# Altium footprint library THS4509RGTT.PcbLib: 1 footprints
Each footprint in its own frame and in the unit in brackets; x right, y up, seen from the top. Pads: shape width x height; smd on the part's side, far side on the other; paste and mask are expansions set on the pad; w line width, h text height; cw(c..) or ccw(c..) is an arc to the next point about the centre after c.
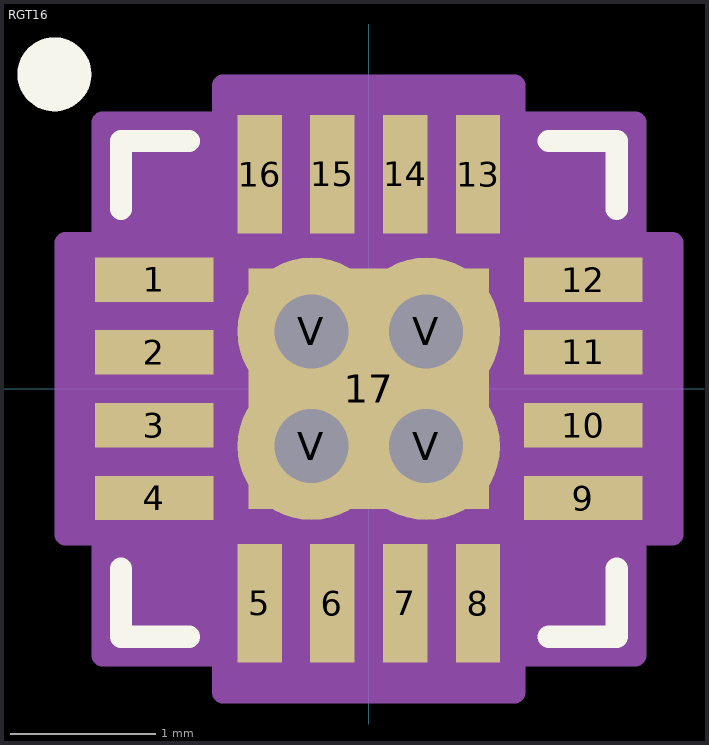
[diagram p0: the footprint, top view; thin cyan lines are the x and y axes]

## RGT16 [mil]
pads (21):
  rect 32x12 smd paste+0 mask+0: 1(-58,29.53) 2(-58,9.84) 3(-58,-9.84) 4(-58,-29.53) 9(58,-29.53) 10(58,-9.84) 11(58,9.84) 12(58,29.53)
  rect 12x32 smd paste+0 mask+0: 5(-29.53,-58) 6(-9.84,-58) 7(9.84,-58) 8(29.53,-58) 13(29.53,58) 14(9.84,58) 15(-9.84,58) 16(-29.53,58)
  rect 65x65 smd paste-32 mask-32: 17(0,0)
  round 40 hole 20: V(-15.5,-15.5) V(-15.5,15.5) V(15.5,-15.5) V(15.5,15.5)
Top Overlay:
  circle w10: c-85,85 r5
  lines w6: -67,-48.63 -67,-67 -48.63,-67 ; -67,48.63 -67,67 -48.63,67 ; 48.63,-67 67,-67 67,-48.63 ; 48.63,67 67,67 67,48.63
Top Paste:
  region: 29.55,-19.44 25,-19.44 19.44,-25 19.44,-29.55 29.55,-29.55
  region: 29.55,11.56 25,11.56 19.44,6 19.44,-6 25,-11.56 29.55,-11.56
  region: 29.55,29.55 19.44,29.55 19.44,25 25,19.44 29.55,19.44
  region: 6,-19.44 -6,-19.44 -11.56,-25 -11.56,-29.55 11.56,-29.55 11.56,-25
  region: 6,11.56 -6,11.56 -11.56,6 -11.56,-6 -6,-11.56 6,-11.56 11.56,-6 11.56,6
  region: 11.56,29.55 -11.56,29.55 -11.56,25 -6,19.44 6,19.44 11.56,25
  region: -25,-19.44 -29.55,-19.44 -29.55,-29.55 -19.44,-29.55 -19.44,-25
  region: -25,11.56 -29.55,11.56 -29.55,-11.56 -25,-11.56 -19.44,-6 -19.44,6
  region: -19.44,29.55 -29.55,29.55 -29.55,19.44 -25,19.44 -19.44,25
Top Solder:
  region: 23.37,-35 23.37,35 35,35 35,-35
  region: 7.63,-35 7.63,35 -7.63,35 -7.63,-35
  region: -35,-35 -35,35 -23.37,35 -23.37,-35
  region: -35,-35 -35,-23.37 35,-23.37 35,-35
  region: -35,-7.63 -35,7.63 35,7.63 35,-7.63
  region: -35,23.37 -35,35 35,35 35,23.37
Mechanical 13:
  lines w1: -62,12 -12,62 ; -62,-62 -62,62 62,62 62,-62 -62,-62 ; -62,-35.53 -62,-23.53 -62,-35.53 ; -62,-15.84 -62,-3.84 -62,-15.84 ; -62,3.84 -62,15.84 -62,3.84 ; -62,23.53 -62,35.53 -62,23.53 ; -35.53,-62 -23.53,-62 -35.53,-62 ; -35.53,62 -23.53,62 -35.53,62 ; -15.84,-62 -3.84,-62 -15.84,-62 ; -15.84,62 -3.84,62 -15.84,62 ; 3.84,-62 15.84,-62 3.84,-62 ; 3.84,62 15.84,62 3.84,62 ; 23.53,-62 35.53,-62 23.53,-62 ; 23.53,62 35.53,62 23.53,62 ; 62,-35.53 62,-23.53 62,-35.53 ; 62,-15.84 62,-3.84 62,-15.84 ; 62,3.84 62,15.84 62,3.84 ; 62,23.53 62,35.53 62,23.53
  text "*" at -54.5,14.37 h50
Mechanical 15:
  region: -39.37,-72 -72,-72 -72,-39.37 -82,-39.37 -82,39.37 -72,39.37 -72,72 -39.37,72 -39.37,82 39.37,82 39.37,72 72,72 72,39.37 82,39.37 82,-39.37 72,-39.37 72,-72 39.37,-72 39.37,-82 -39.37,-82
  lines w6: -82,-39.37 -82,39.37 -72,39.37 -72,72 -39.37,72 -39.37,82 39.37,82 39.37,72 72,72 72,39.37 82,39.37 82,-39.37 72,-39.37 72,-72 39.37,-72 39.37,-82 -39.37,-82 -39.37,-72 -72,-72 -72,-39.37 -82,-39.37
3D body "RGT16.stp": height 36.1, standoff 0, extent -62,-62 62.01,62.01
3D body: height 10, standoff 0, extent 0,0 10,10